# Altium footprint library apollo.PcbLib: 245 footprints (part 9 of 16)
Each footprint in its own frame and in the unit in brackets; x right, y up, seen from the top. Pads: shape width x height; smd on the part's side, far side on the other; paste and mask are expansions set on the pad; w line width, h text height; cw(c..) or ccw(c..) is an arc to the next point about the centre after c.
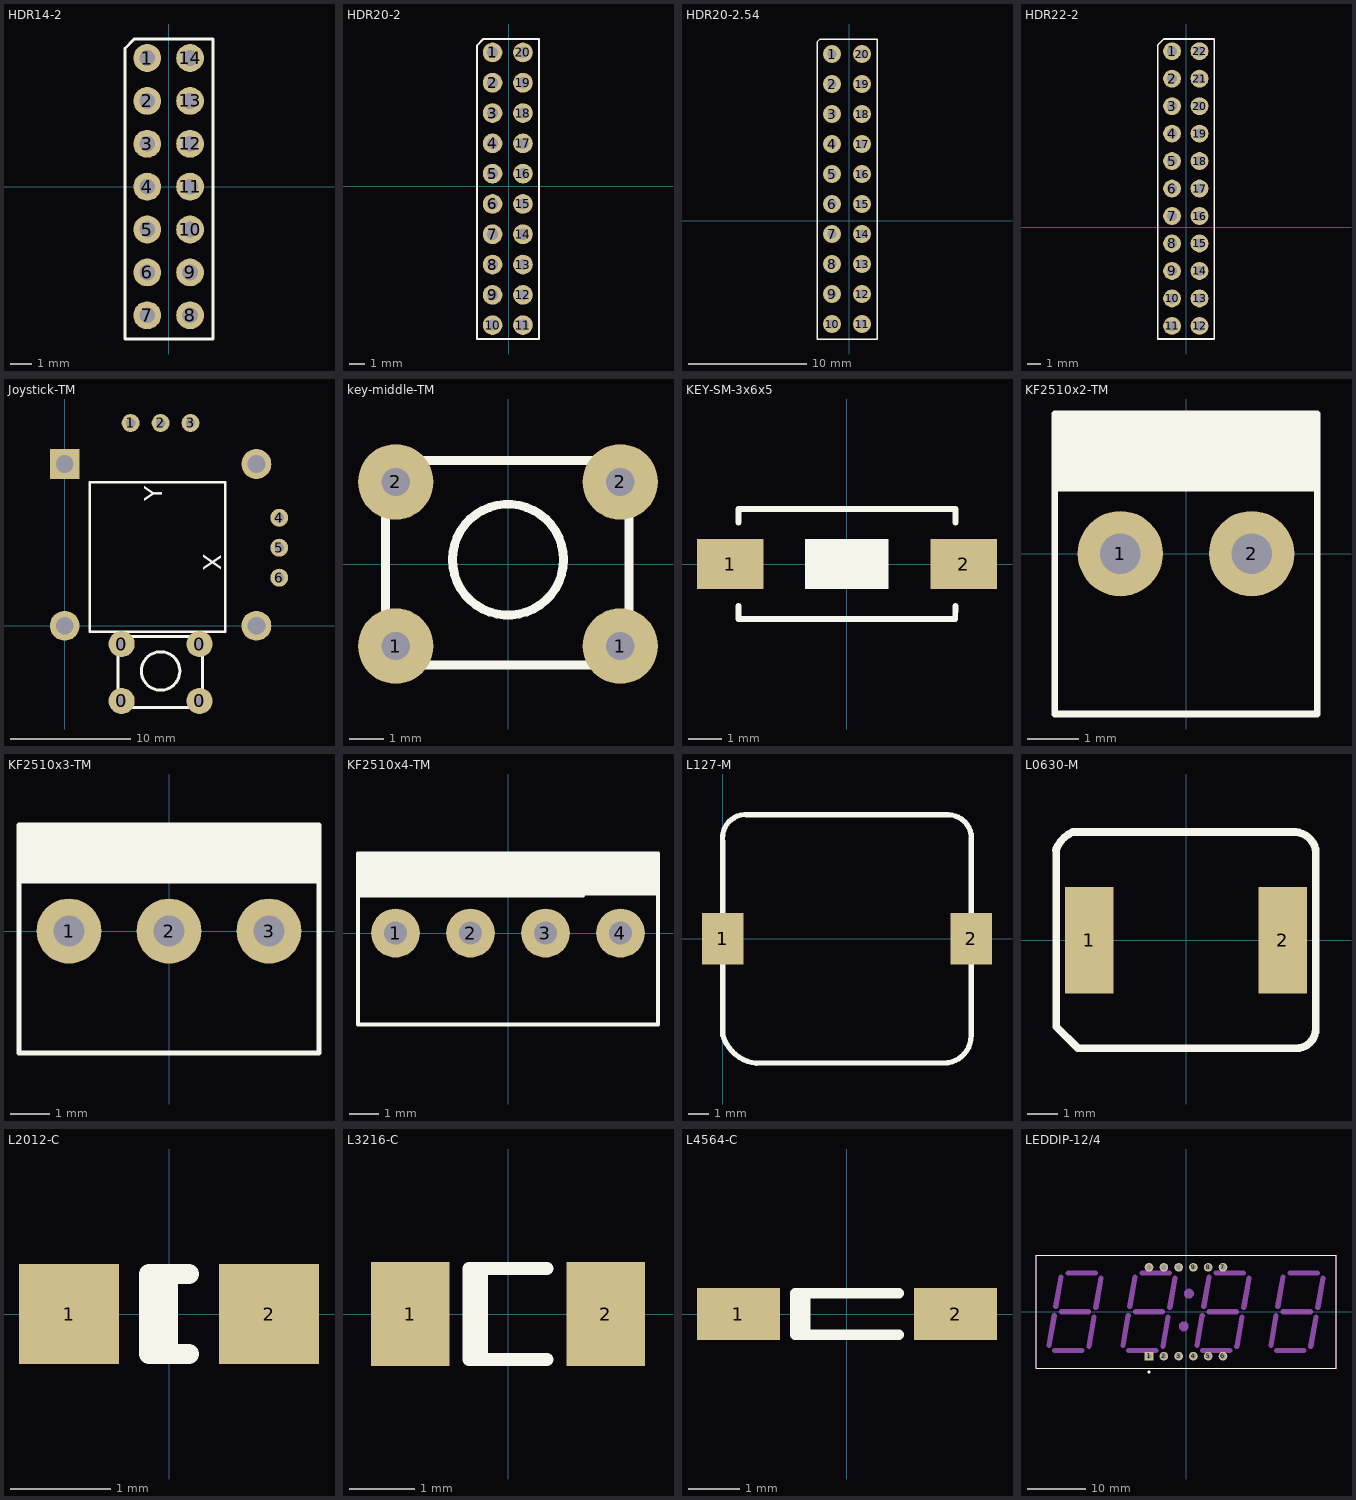
[diagram p8: the footprints below, top view; thin cyan lines are the x and y axes]

## HDR14-2 [mm] "Header 14pin  2mm间距"
pads (14):
  round 1.3 hole 0.737: 1(-1,6) 2(-1,4) 3(-1,2) 4(-1,0) 5(-1,-2) 6(-1,-4) 7(-1,-6) 8(1,-6) 9(1,-4) 10(1,-2) 11(1,0) 12(1,2) 13(1,4) 14(1,6)
Top Overlay:
  lines w0.127: 2.073,-7.106 2.073,6.889 -1.606,6.889 -2.041,6.453 -2.041,-7.106 2.048,-7.106 2.073,-7.081

## HDR20-2 [mm] "Header  20pin 2mm间距"
pads (20):
  round 1.3 hole 0.737: 1(-1.051,8.832) 2(-1.051,6.832) 3(-1.051,4.832) 4(-1.051,2.832) 5(-1.051,0.832) 6(-1.051,-1.168) 7(-1.051,-3.168) 8(-1.051,-5.168) 9(-1.051,-7.168) 10(-1.051,-9.168) 11(0.949,-9.168) 12(0.949,-7.168) 13(0.949,-5.168) 14(0.949,-3.168) 15(0.949,-1.168) 16(0.949,0.832) 17(0.949,2.832) 18(0.949,4.832) 19(0.949,6.832) 20(0.949,8.832)
Top Overlay:
  lines w0.127: -2.092,-10.084 -2.092,9.285 -1.656,9.721 2.023,9.721 2.023,-10.084 -2.092,-10.084

## HDR20-2.54 [mil] "Header  20pin  2.54mm"
pads (20):
  round 60 hole 30: 1(-57,556) 2(-57,456) 3(-57,356) 4(-57,256) 5(-57,156) 6(-57,56) 7(-57,-44) 8(-57,-144) 9(-57,-244) 10(-57,-344) 11(43,-344) 12(43,-244) 13(43,-144) 14(43,-44) 15(43,56) 16(43,156) 17(43,256) 18(43,356) 19(43,456) 20(43,556)
Top Overlay:
  lines w5: -107,-394 -107,596 -97,606 93,606 93,-394 -107,-394

## HDR22-2 [mm] "Header  22pin  2mm"
pads (22):
  round 1.3 hole 0.737: 1(-1.051,12.819) 2(-1.051,10.819) 3(-1.051,8.819) 4(-1.051,6.819) 5(-1.051,4.819) 6(-1.051,2.819) 7(-1.051,0.819) 8(-1.051,-1.181) 9(-1.051,-3.181) 10(-1.051,-5.181) 11(-1.051,-7.181) 12(0.949,-7.181) 13(0.949,-5.181) 14(0.949,-3.181) 15(0.949,-1.181) 16(0.949,0.819) 17(0.949,2.819) 18(0.949,4.819) 19(0.949,6.819) 20(0.949,8.819) 21(0.949,10.819) 22(0.949,12.819)
Top Overlay:
  lines w0.127: -2.092,-8.136 2.023,-8.136 2.023,13.708 -1.656,13.708 -2.092,13.273 -2.092,-8.136

## Joystick-TM [mm] "Joystick, 直插式，5V供电，自动回中"
pads (14):
  round 2.184 hole 0.762: 0(4.751,-6.274) 0(4.751,-1.524) 0(11.251,-6.274) 0(11.251,-1.524)
  round 1.5 hole 0.787: 1(5.501,16.929) 2(8.001,16.929) 3(10.501,16.929) 4(17.907,9.015) 5(17.907,6.515) 6(17.907,4.015)
  round 2.5 hole 1.5: ""(0,0) ""(16,0) ""(16,13.5)
  rect 2.5x2.5 hole 1.5: ""(0,13.5)
Top Overlay:
  circle w0.254: c8.001,-3.774 r1.606
  lines w0.2: 2.085,11.95 2.085,-0.5 13.415,-0.5 13.415,11.969 2.085,11.969
  lines w0.254: 4.451,-6.074 4.451,-6.816 ; 11.126,-6.822 11.445,-6.822 11.501,-6.766 11.557,-6.822 ; 11.126,-0.899 11.501,-0.899 ; 11.251,-6.822 11.557,-6.822 ; 11.501,-6.722 11.501,-0.899 ; 4.451,-6.816 4.457,-6.822 11.557,-6.822 ; 4.451,-6.816 4.451,-0.899 11.501,-0.899
  text "X" at 11.582,6.027 h1.52
  text "Y" at 8.128,10.376 h1.52

## key-middle-TM [mil] "midle key, 直插式"
pads (4):
  round 86 hole 32: 1(-127.95,-93.5) 1(127.95,-93.5) 2(-127.95,93.5) 2(127.95,93.5)
Top Overlay:
  circle w10: c0,4.92 r63.25
  lines w10: -139.76,-85.63 -139.76,-114.84 ; 123.03,-115.08 135.59,-115.08 137.8,-112.87 140,-115.08 ; 123.03,118.11 137.8,118.11 ; 127.95,-115.08 140,-115.08 ; 137.8,-111.14 137.8,118.11 ; -139.76,-114.84 -139.53,-115.08 140,-115.08 ; -139.76,-114.84 -139.76,118.11 137.8,118.11

## KEY-SM-3x6x5 [mm] "表贴按键"
height 5
pads (2):
  rect 2x1.5 smd: 1(-3.5,0) 2(3.5,0)
Top Overlay:
  rectangle: -1.253,-0.747 1.247,0.753
  lines w0.178: -3.25,-1.25 -3.25,-1.645 3.248,-1.645 3.25,-1.25 ; -3.25,1.25 -3.25,1.657 3.25,1.657 3.25,1.25

## KF2510x2-TM [mil] "2510 2 pin直插安装"
height 440.94
pads (2):
  round 65 hole 31: 1(-50,0) 2(50,0)
Top Overlay:
  rectangle: -98,50 99,106.3
  lines w5: -100,50 99,50 ; -100,-122 -100,106.3 100,106.3 100,-122 -100,-122

## KF2510x3-TM [mil] "2510 3pin 直插接口"
height 440.94
pads (3):
  round 65 hole 31: 1(-100,0) 2(0,0) 3(100,0)
Top Overlay:
  rectangle: -150,50 150,106.3
  lines w5: -150,50 150,50 ; -150,-122 150,-122 150,106.3 -150,106.3 -150,-122

## KF2510x4-TM [mil] "2510  4pin 直插接口"
height 440.94
pads (4):
  round 65 hole 31: 1(-150,0) 2(-50,0) 3(50,0) 4(150,0)
Top Overlay:
  rectangle: -200,50 200,106.3
  lines w5: -200,50 100,50 ; -200,-122 -200,106.3 200,106.3 200,-122 -200,-122

## L127-M [mm] "Inductor 12mmx12mmx7mm"
height 7
pads (2):
  rect 2x2.5 smd: 1(0,0) 2(12,0)
Top Overlay:
  lines w0.254: 1.118,6 10.891,6 cw(c10.871,4.851) 12.019,4.892 ; 1.216,6.008 ccw(c1.118,4.877) 0,4.674 0,0 0,-4.674 ccw(c1.829,-4.115) 1.63,-6.017 ; 1.555,-6 10.688,-6 ccw(c10.693,-4.699) 11.994,-4.688 ; 12,-4.688 12,4.891

## L0630-M [mm] "Inductor, 7mmx7mmx3mm"
height 3
pads (2):
  rect 1.6x3.5 smd: 1(-3.188,0) 2(3.188,0)
Top Overlay:
  lines w0.254: -4.277,2.967 cw(c-3.346,2.658) -3.728,3.562 3.607,3.562 cw(c3.552,2.832) 4.264,3.002 ; -4.267,3.023 -4.267,-2.845 -3.556,-3.556 3.694,-3.556 ; 3.641,-3.552 ccw(c3.643,-2.928) 4.267,-2.923 ; 4.267,-2.928 4.267,2.997

## L2012-C [mm] "Chip Inductor; Body 2.0 x 1.2 mm (LxW typ)"
height 1.2
pads (2):
  rect 1x1 smd: 1(-1,0) 2(1,0)
Top Overlay:
  lines w0.2: -0.01,-0.4 -0.01,0.4 ; 0.2,-0.4 -0.2,-0.4 -0.2,0.4 0.2,0.4

## L3216-C [mm] "Chip Inductor; Body 3.2 x 1.6 mm (LxW typ)"
height 1.9
pads (2):
  rect 1.2x1.6 smd: 1(-1.5,0) 2(1.5,0)
Top Overlay:
  lines w0.2: -0.41,-0.7 -0.41,0.7 ; 0.6,-0.7 -0.6,-0.7 -0.6,0.7 0.6,0.7

## L4564-C [mm] "Chip Inductor; Body 4.5 x 6.4 mm (LxW typ)"
height 1.9
pads (2):
  rect 1.6x1 smd: 1(-2.1,0) 2(2.1,0)
Top Overlay:
  lines w0.2: -0.81,-0.4 -0.81,0.4 ; 1,-0.4 -1,-0.4 -1,0.4 1,0.4

## LEDDIP-12/4 [mm] "ED, 7-Segment Display, 14.22 mm, Four Digit, 88:88; 12 Leads; Row Space 15.24 mm; Pitch 2.54 mm"
height 8.26
pads (12):
  rect 1.5x1.5 hole 0.9: 1(-6.35,-7.62)
  round 1.5 hole 0.9: 2(-3.81,-7.62) 3(-1.27,-7.62) 4(1.27,-7.62) 5(3.81,-7.62) 6(6.35,-7.62) 7(6.35,7.62) 8(3.81,7.62) 9(1.27,7.62) 10(-1.27,7.62) 11(-3.81,7.62) 12(-6.35,7.62)
Top Overlay:
  circle w0.25: c-6.35,-10.35 r0.125
  lines w0.2: -25.75,-9.7 25.75,-9.7 25.75,9.7 -25.75,9.7 -25.75,-9.7
Mechanical 1:
  circle w1.4: c-0.395,-2.5 r0.15
  circle w1.4: c0.505,3.1 r0.15
  lines w0.9: -23.53,-5.76 -22.63,-0.69 ; -22.57,-6.66 -17.9,-6.67 ; -22.35,0.9 -21.46,5.96 ; -21.39,0 -16.73,0 ; -20.23,6.66 -15.56,6.66 ; -16.67,-5.95 -15.78,-0.9 ; -15.49,0.71 -14.6,5.76 ; -10.83,-5.76 -9.93,-0.69 ; -9.87,-6.66 -5.2,-6.67 ; -9.65,0.9 -8.76,5.96 ; -8.69,0 -4.03,0 ; -7.53,6.66 -2.86,6.66 ; -3.97,-5.95 -3.08,-0.9 ; -2.79,0.71 -1.9,5.76 ; 1.87,-5.76 2.77,-0.69 ; 2.83,-6.66 7.5,-6.67 ; 3.05,0.9 3.94,5.96 ; 4.01,0 8.67,0 ; 5.17,6.66 9.84,6.66 ; 8.73,-5.95 9.62,-0.9 ; 9.91,0.71 10.8,5.76 ; 14.57,-5.76 15.47,-0.69 ; 15.53,-6.66 20.2,-6.67 ; 15.75,0.9 16.64,5.96 ; 16.71,0 21.37,0 ; 17.87,6.66 22.54,6.66 ; 21.43,-5.95 22.32,-0.9 ; 22.61,0.71 23.5,5.76
Mechanical 13:
  lines w0.1: -25.75,-9.7 -25.75,9.7 25.75,9.7 25.75,-9.7 -25.75,-9.7
3D body: height 8.26, standoff 0, extent -25.75,-9.7 25.75,9.7